# EAGLE library part 64801011622 (library Wurth_Connectors_WR-WTB)
WR-WTB 1.50 mm Male Vertical Shrouded Header KIND PROPERTIES: Pitch:1.5 mm Gender:Male MATERIAL PROPERTIES: Insulator Material :Nylon 9T Insulator Flammability Rating:UL94 V-0 Color:Beige Contact Material:Copper Alloy Contact Plating:Tin Contact Type:Stamped GENERAL INFORMATION Operating Temperature:-25 up to +85 °C Compliance: RoHS Working Voltage:50 V (AC) Withstanding Voltage:500 V (AC) Contact Resistance:20 mΩ RISO:100 MΩ CERTIFICATION UL Approval:E323964 PACKAGING PROPERTIES Packaging:Bag <https://katalog.we-online.com/media/images/v2/o33366v209%20Family_WR-WTB_6480xx11622.jpg> Details see: https://katalog.we-online.com/en/em/WTB_1_50_MALE_VERTICAL_SHROUDED_HEADER_6480XX11622 Updated by Yingchun,Shan 2019-11-08 2019 (C) Würth Elektronik
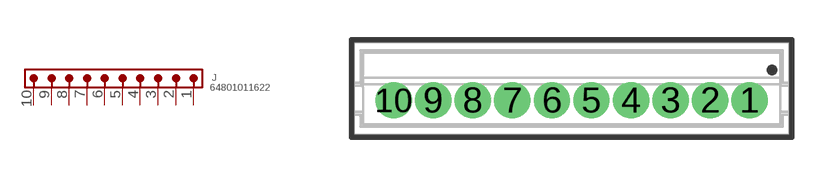
[diagram p0: symbol with the pads of 64801011622; footprint 64801011622]

Designator prefix J

## 64801011622 (CONTACT-RESISTANCE: 20mOhm; DATASHEET-URL: https://www.we-online.com/redexpert/spec/64801011622?ae; GENDER: Male; IR: 1A; L: 16.5mm; MOUNT: THT; PACKAGING: Bag; PART-NUMBER: 64801011622; PCB-CABLE-PANEL: PCB; PINS: 10; PITCH: 1.5mm; TYPE: Vertical; VALUE: 64801011622; WORKING-VOLTAGE: 50V(AC))  [64801011622]
1  1  pas
2  2  pas
3  3  pas
4  4  pas
5  5  pas
6  6  pas
7  7  pas
8  8  pas
9  9  pas
10  10  pas

## Footprint 64801011622 (pad centres in mm)
WR-WTB 1.50 mm Male Vertical Shrouded Header,10 Pins
drill 0.87: 1 6.75,-0.45; 2 5.25,-0.45; 3 3.75,-0.45; 4 2.25,-0.45; 5 0.75,-0.45; 6 -0.75,-0.45; 7 -2.25,-0.45; 8 -3.75,-0.45; 9 -5.25,-0.45; 10 -6.75,-0.45